# Altium footprint library Connectors.PcbLib: 2 footprints
Each footprint in its own frame and in the unit in brackets; x right, y up, seen from the top. Pads: shape width x height; smd on the part's side, far side on the other; paste and mask are expansions set on the pad; w line width, h text height; cw(c..) or ccw(c..) is an arc to the next point about the centre after c.
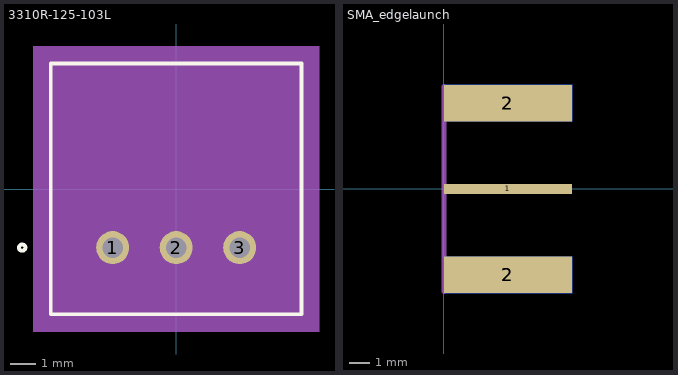
[diagram p0: the footprints below, top view; thin cyan lines are the x and y axes]

## 3310R-125-103L [mil]
pads (3):
  round 52 hole 32 mask+0: 1(-100,-92.3) 2(0,-92.3) 3(100,-92.3)
Top Overlay:
  circle w6: c-242.5,-92.3 r5
  lines w6: -197.5,-197.3 197.5,-197.3 197.5,197.7 -197.5,197.7 -197.5,-197.3
Mechanical 5:
  region: -225,225 225,225 225,-225 -225,-225
Mechanical 13:
  circle w0: c-172.5,-92.3 r5
  circle w0: c0,0.2 r126.5
  lines w1: -192.5,-192.3 192.5,-192.3 192.5,192.7 -192.5,192.7 -192.5,-192.3
Mechanical 15:
  region: 202.5,-202.3 -202.5,-202.3 -202.5,202.7 202.5,202.7
  lines w6: -202.5,-202.3 -202.5,202.7 202.5,202.7 202.5,-202.3 -202.5,-202.3
3D body: height 10, standoff 0, extent -100,-92.3 -90,-82.3

## SMA_edgelaunch [mil]
height 8
pads (5):
  rect 250x20 smd: 1(125,0)
  rect 250x70.87 smd far side: 2(125,-167.5) 2(125,167.5)
  rect 250x70.87 smd: 2(125,-167.5) 2(125,167.5)
Mechanical 1:
  lines w10: 0,-200 0,200
  text "board   edge" at 39.51,-121.06 h19.68